# EAGLE library part ADS2807 (library kamiki)
Dual, 12-Bit, 50MHz Sampling Analog-To-Digital Converter
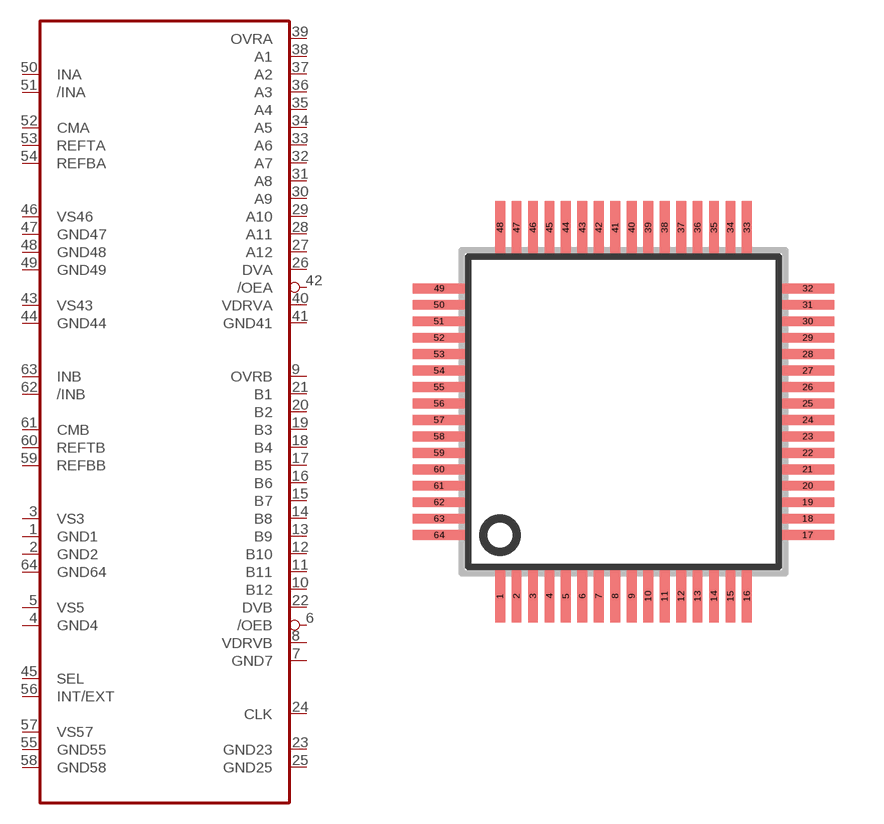
[diagram p8: symbol with the pads of SQFP-S-10X10-64; footprint SQFP-S-10X10-64]

Designator prefix IC

## ADS2807  [SQFP-S-10X10-64]
1  GND1  pwr
2  GND2  pwr
3  VS3  pwr
4  GND4  pwr
5  VS5  pwr
6  /OEB  in
7  GND7  pwr
8  VDRVB  pwr
9  OVRB  hiz
10  B12  hiz
11  B11  hiz
12  B10  hiz
13  B9  hiz
14  B8  hiz
15  B7  hiz
16  B6  hiz
17  B5  hiz
18  B4  hiz
19  B3  hiz
20  B2  hiz
21  B1  hiz
22  DVB  out
23  GND23  pwr
24  CLK  in
25  GND25  pwr
26  DVA  out
27  A12  hiz
28  A11  hiz
29  A10  hiz
30  A9  hiz
31  A8  hiz
32  A7  hiz
33  A6  hiz
34  A5  hiz
35  A4  hiz
36  A3  hiz
37  A2  hiz
38  A1  hiz
39  OVRA  hiz
40  VDRVA  pwr
41  GND41  pwr
42  /OEA  in
43  VS43  pwr
44  GND44  pwr
45  SEL  in
46  VS46  pwr
47  GND47  pwr
48  GND48  pwr
49  GND49  pwr
50  INA  in
51  /INA  in
52  CMA  out
53  REFTA  pas
54  REFBA  pas
55  GND55  pwr
56  INT/EXT  in
57  VS57  pwr
58  GND58  pwr
59  REFBB  pas
60  REFTB  pas
61  CMB  out
62  /INB  in
63  INB  in
64  GND64  pwr

## Footprint SQFP-S-10X10-64 (pad centres in mm)
QFP64 shrink quad flat pack, square
smd 0.3 x 1.6: 1 -3.75,-5.6; 2 -3.25,-5.6; 3 -2.75,-5.6; 4 -2.25,-5.6; 5 -1.75,-5.6; 6 -1.25,-5.6; 7 -0.75,-5.6; 8 -0.25,-5.6; 9 0.25,-5.6; 10 0.75,-5.6; 11 1.25,-5.6; 12 1.75,-5.6; 13 2.25,-5.6; 14 2.75,-5.6; 15 3.25,-5.6; 16 3.75,-5.6; 33 3.75,5.6; 34 3.25,5.6; 35 2.75,5.6; 36 2.25,5.6; 37 1.75,5.6; 38 1.25,5.6; 39 0.75,5.6; 40 0.25,5.6; 41 -0.25,5.6; 42 -0.75,5.6; 43 -1.25,5.6; 44 -1.75,5.6; 45 -2.25,5.6; 46 -2.75,5.6; 47 -3.25,5.6; 48 -3.75,5.6
smd 1.6 x 0.3: 17 5.6,-3.75; 18 5.6,-3.25; 19 5.6,-2.75; 20 5.6,-2.25; 21 5.6,-1.75; 22 5.6,-1.25; 23 5.6,-0.75; 24 5.6,-0.25; 25 5.6,0.25; 26 5.6,0.75; 27 5.6,1.25; 28 5.6,1.75; 29 5.6,2.25; 30 5.6,2.75; 31 5.6,3.25; 32 5.6,3.75; 49 -5.6,3.75; 50 -5.6,3.25; 51 -5.6,2.75; 52 -5.6,2.25; 53 -5.6,1.75; 54 -5.6,1.25; 55 -5.6,0.75; 56 -5.6,0.25; 57 -5.6,-0.25; 58 -5.6,-0.75; 59 -5.6,-1.25; 60 -5.6,-1.75; 61 -5.6,-2.25; 62 -5.6,-2.75; 63 -5.6,-3.25; 64 -5.6,-3.75